# Altium footprint library RTC.PcbLib: 1 footprints
Each footprint in its own frame and in the unit in brackets; x right, y up, seen from the top. Pads: shape width x height; smd on the part's side, far side on the other; paste and mask are expansions set on the pad; w line width, h text height; cw(c..) or ccw(c..) is an arc to the next point about the centre after c.
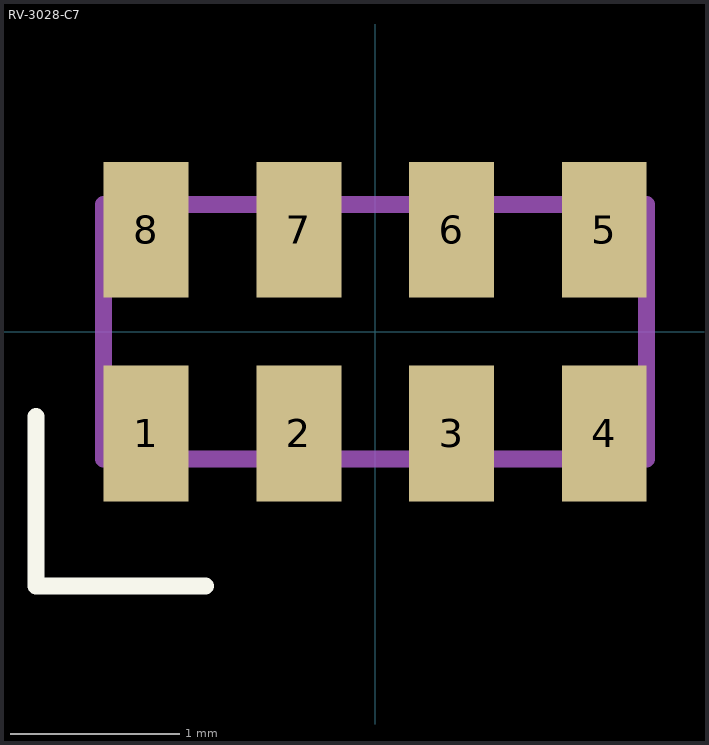
[diagram p0: the footprint, top view; thin cyan lines are the x and y axes]

## RV-3028-C7 [mm] "IC RTC CLK/CALENDAR I2C 8SON"
pads (8):
  rect 0.5x0.8 smd mask+0.051: 1(-1.35,-0.6) 2(-0.45,-0.6) 3(0.45,-0.6) 4(1.35,-0.6) 5(1.35,0.6) 6(0.45,0.6) 7(-0.45,0.6) 8(-1.35,0.6)
Top Overlay:
  lines w0.1: -2,-0.5 -2,-1.5 -1,-1.5
Mechanical 13:
  lines w0.1: -1.6,-0.75 1.6,-0.75 1.6,0.75 -1.6,0.75 -1.6,-0.75
3D body "RV-3028-C7_32.768KHZ_1PPM-TA-QC.stp": height 0.8, standoff 0, extent -1.6,-0.75 1.6,0.75